# Altium schematic symbol library Sch_GB_lib.SchLib: 489 symbols (part 5 of 5)
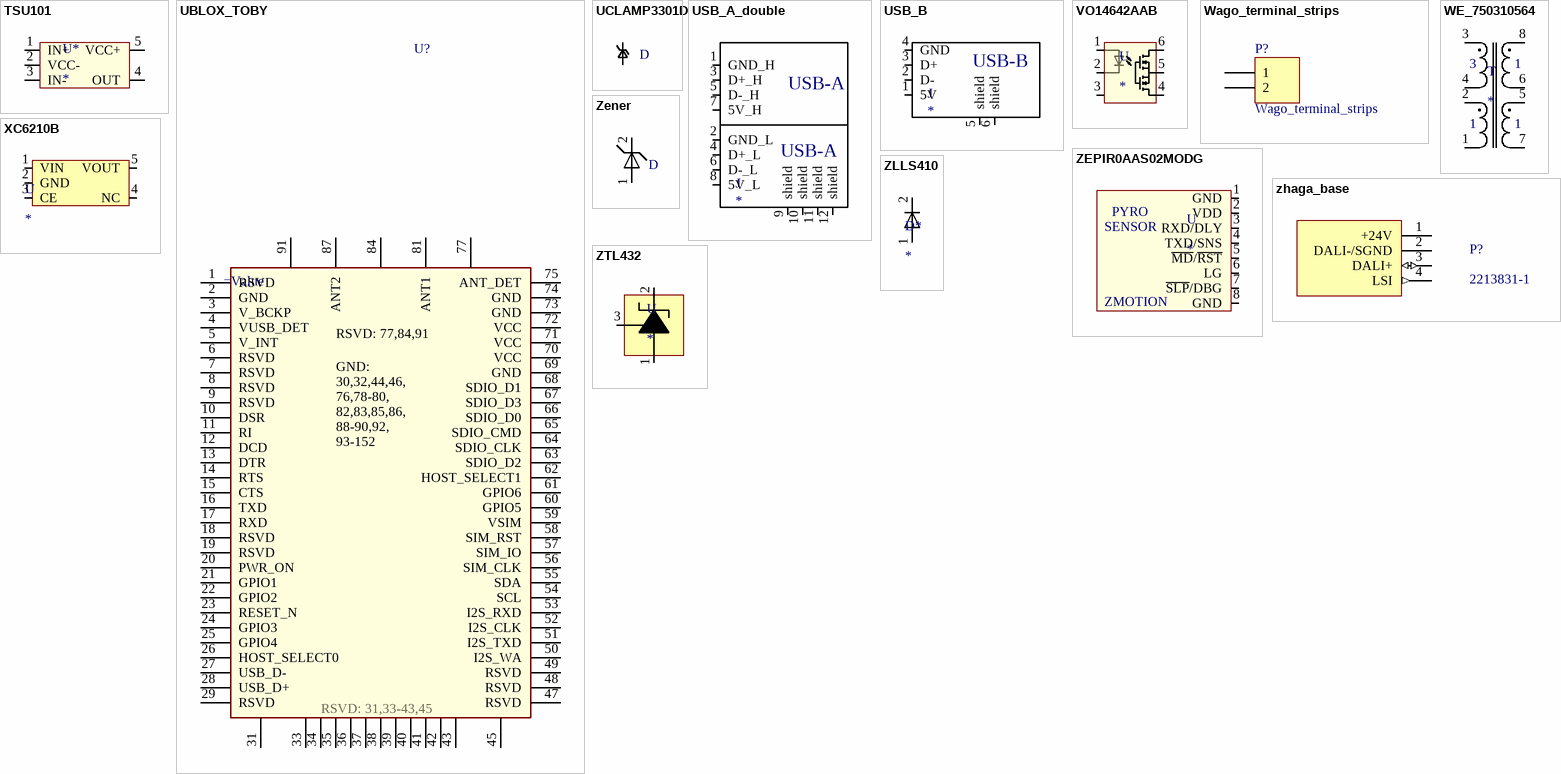
[diagram p21: symbols TSU101 to ZTL432]

## Zener
designator D  (value not drawn)
Farnell ref: 9558101
footprint R_dil
pins: 1, 2

## ZEPIR0AAS02MODG
designator U
Zilog pyroelectric sensor
footprint ZEPIR0AA (Pyroelectric system on DIL module)
footprint ZEPIR0AA_HORIZONTAL (Pyroelectric system on DIL module)
pins: 1 GND, 2 VDD, 3 RXD/DLY, 4 TXD/SNS, 5 ~{MD}/~{RST}, 6 LG, 7 ~{SLP}/DBG, 8 GND
text: PYRO; SENSOR; ZMOTION

## zhaga_base
designator P?, comment 2213831-1
80MM BASE, ASSEMBLY, SR MODULE; Manufacturer 1: TE Connectivity AMP Connectors; Manufacturer Part Number 1: 2213831-1; Supplier Part Number 1: A126113-ND; Supplier 1: Digi-Key; Value: 2213831-1
pins: 1 +24V (power), 2 DALI-/SGND, 3 DALI+ (io), 4 LSI (out) "Logic Signal Input"

## ZLLS410
designator D*
Imax: 750mA; VF@Imax: 0.55V; Farnell ref: *; Digikey ref: ZLLS410CT-ND
footprint SOD323 (SOD323F 1.8x1.35mm, total legth 2.7mm, lead width 0.4mm)
footprint sod323 (SOD323F 1.8x1.35mm, total legth 2.7mm, lead width 0.4mm)
pins: 1, 2

## ZTL432
designator U
Farnell ref: 1225193
footprint SOT23 (SOT23, 2.9x1.3mm, 3 leads)
pins: 1 A, 2 K, 3 REF